# Altium footprint library Project_Oshinoko.PcbLib: 202 footprints (part 5 of 13)
Each footprint in its own frame and in the unit in brackets; x right, y up, seen from the top. Pads: shape width x height; smd on the part's side, far side on the other; paste and mask are expansions set on the pad; w line width, h text height; cw(c..) or ccw(c..) is an arc to the next point about the centre after c.
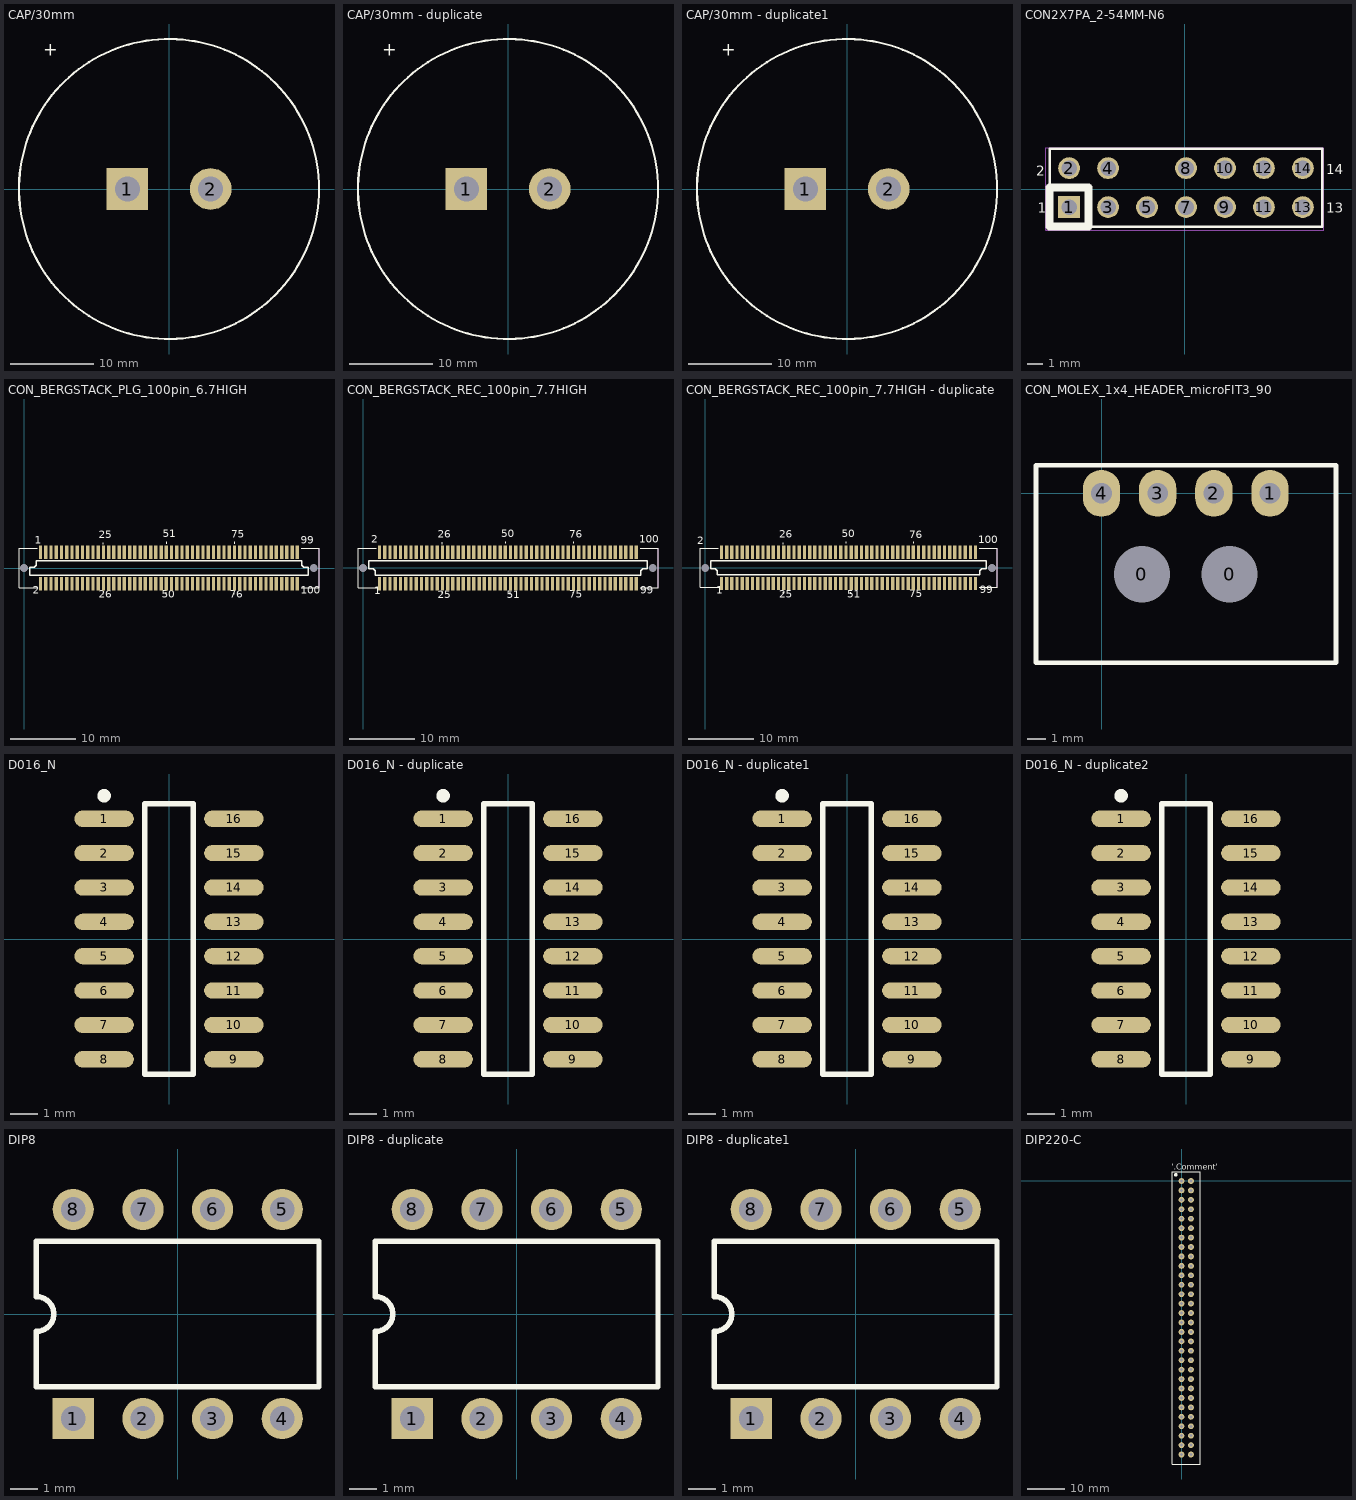
[diagram p4: the footprints below, top view; thin cyan lines are the x and y axes]

## CAP/30mm [mm]
pads (2):
  rect 5x5 hole 3: 1(-5,0)
  round 5 hole 3: 2(5,0)
Top Overlay:
  circle w0.254: c0,0 r18
  text "+" at -15.113,16.002 h1.52

## CAP/30mm - duplicate [mm]
pads (2):
  rect 5x5 hole 3: 1(-5,0)
  round 5 hole 3: 2(5,0)
Top Overlay:
  circle w0.254: c0,0 r18
  text "+" at -15.113,16.002 h1.52

## CAP/30mm - duplicate1 [mm]
pads (2):
  rect 5x5 hole 3: 1(-5,0)
  round 5 hole 3: 2(5,0)
Top Overlay:
  circle w0.254: c0,0 r18
  text "+" at -15.113,16.002 h1.52

## CON2X7PA_2-54MM-N6 [mil] "CON2X7PA_2-54MM-N6"
pads (13):
  rect 56x56 hole 40: 1(-296.5,-46.5)
  round 56 hole 40: 2(-296.5,53.5) 3(-196.5,-46.5) 4(-196.5,53.5) 5(-96.5,-46.5) 7(3.5,-46.5) 8(3.5,53.5) 9(103.5,-46.5) 10(103.5,53.5) 11(203.5,-46.5) 12(203.5,53.5) 13(303.5,-46.5) 14(303.5,53.5)
Top Overlay:
  lines w6: -346.5,-96.5 353.5,-96.5 353.5,103.5 -346.5,103.5 -346.5,-96.5
  lines w20: -346.5,-96.5 -246.5,-96.5 -246.5,3.5 -346.5,3.5 -346.5,-96.5
  text "14" at 363.5,38.5 h25
  text "13" at 363.5,-61.5 h25
  text "2" at -381.5,33.5 h25
  text "1" at -376.5,-61.5 h25
Mechanical 10:
  text "4" at -206.5,53.5 h25
  text "8" at -6.5,53.5 h25
  text "10" at 83.5,53.5 h25
  text "12" at 183.5,53.5 h25
  text "5" at -106.5,-46.5 h25
  text "13" at 283.5,-46.5 h25
  text "14" at 283.5,53.5 h25
  text "11" at 183.5,-46.5 h25
  text "9" at 93.5,-46.5 h25
  text "3" at -206.5,-46.5 h25
  text "7" at -6.5,-46.5 h25
  text "1" at -306.5,-46.5 h25
  text "2" at -306.5,53.5 h25
Mechanical 11:
  lines w1: -356.5,-106.5 356.5,-106.5 356.5,106.5 -356.5,106.5 -356.5,-106.5

## CON_BERGSTACK_PLG_100pin_6.7HIGH [mil]
pads (102):
  round 39.37 hole 47.99 unplated: 0(0,0) 0(1740,0)
  rect 20x80 smd: 1(98.35,94.49) 2(98.35,-94.49) 3(129.84,94.49) 4(129.84,-94.49) 5(161.34,94.49) 6(161.34,-94.49) 7(192.83,94.49) 8(192.83,-94.49) 9(224.33,94.49) 10(224.33,-94.49) 11(255.83,94.49) 12(255.83,-94.49) 13(287.32,94.49) 14(287.32,-94.49) 15(318.82,94.49) 16(318.82,-94.49) 17(350.31,94.49) 18(350.31,-94.49) 19(381.81,94.49) 20(381.81,-94.49) 21(413.31,94.49) 22(413.31,-94.49) 23(444.8,94.49) 24(444.8,-94.49) 25(476.3,94.49) 26(476.3,-94.49) 27(507.8,94.49) 28(507.8,-94.49) 29(539.29,94.49) 30(539.29,-94.49) 31(570.79,94.49) 32(570.79,-94.49) 33(602.28,94.49) 34(602.28,-94.49) 35(633.78,94.49) 36(633.78,-94.49) 37(665.28,94.49) 38(665.28,-94.49) 39(696.77,94.49) 40(696.77,-94.49) 41(728.27,94.49) 42(728.27,-94.49) 43(759.76,94.49) 44(759.76,-94.49) 45(791.26,94.49) 46(791.26,-94.49) 47(822.76,94.49) 48(822.76,-94.49) 49(854.25,94.49) 50(854.25,-94.49) 51(885.75,94.49) 52(885.75,-94.49) 53(917.24,94.49) 54(917.24,-94.49) 55(948.74,94.49) 56(948.74,-94.49) 57(980.24,94.49) 58(980.24,-94.49) 59(1011.73,94.49) 60(1011.73,-94.49) 61(1043.23,94.49) 62(1043.23,-94.49) 63(1074.72,94.49) 64(1074.72,-94.49) 65(1106.22,94.49) 66(1106.22,-94.49) 67(1137.72,94.49) 68(1137.72,-94.49) 69(1169.21,94.49) 70(1169.21,-94.49) 71(1200.71,94.49) 72(1200.71,-94.49) 73(1232.2,94.49) 74(1232.2,-94.49) 75(1263.7,94.49) 76(1263.7,-94.49) 77(1295.2,94.49) 78(1295.2,-94.49) 79(1326.69,94.49) 80(1326.69,-94.49) 81(1358.19,94.49) 82(1358.19,-94.49) 83(1389.69,94.49) 84(1389.68,-94.49) 85(1421.18,94.49) 86(1421.18,-94.49) 87(1452.68,94.49) 88(1452.68,-94.49) 89(1484.17,94.49) 90(1484.17,-94.49) 91(1515.67,94.49) 92(1515.67,-94.49) 93(1547.17,94.49) 94(1547.17,-94.49) 95(1578.66,94.49) 96(1578.66,-94.49) 97(1610.16,94.49) 98(1610.16,-94.49) 99(1641.65,94.49) 100(1641.65,-94.49)
Top Overlay:
  lines w6: 80,118.11 -31,118.11 -31,-118 81,-118 ; 475,-157.87 475,-147.87 ; 475,142.87 475,152.87 ; 852.95,-155.91 852.95,-145.91 ; 855.55,147.87 855.55,157.87 ; 1262.4,-157.87 1262.4,-147.87 ; 1265,147.87 1265,157.87 ; 1664,-118 1771.58,-118 1771.58,118.11 1665,118.11
  lines w7.87: 33.46,-44.29 1706.54,-44.29 1706.54,5.91 1679.96,5.91 1668.15,17.72 1668.15,43.31 71.85,43.31 71.85,17.72 60.04,5.91 33.46,5.91 33.46,-44.29
  text "100" at 1663.39,-172.24 h80
  text "99" at 1661.42,128.94 h80
  text "2" at 51.18,-172.24 h80
  text "1" at 62.99,128.94 h80
  text "25" at 448.82,161.42 h80
  text "26" at 448.82,-196.85 h80
  text "51" at 833.66,166.34 h80
  text "75" at 1244.09,164.37 h80
  text "76" at 1236.22,-196.85 h80
  text "50" at 827.76,-196.85 h80
Mechanical 13:
  lines w6: 1771.58,-118.11 1771.58,118.11
3D body "s61083-103x0xxx.stp": height 261.81, standoff -27.56, extent -31.5,-118.11 1771.65,118.11

## CON_BERGSTACK_REC_100pin_7.7HIGH [mil]
pads (102):
  round 39.37 hole 47.99 unplated: 0(0,0) 0(1740,0)
  rect 20x80 smd: 1(98.35,-94.49) 2(98.35,94.49) 3(129.84,-94.49) 4(129.84,94.49) 5(161.34,-94.49) 6(161.34,94.49) 7(192.83,-94.49) 8(192.83,94.49) 9(224.33,-94.49) 10(224.33,94.49) 11(255.83,-94.49) 12(255.83,94.49) 13(287.32,-94.49) 14(287.32,94.49) 15(318.82,-94.49) 16(318.82,94.49) 17(350.31,-94.49) 18(350.31,94.49) 19(381.81,-94.49) 20(381.81,94.49) 21(413.31,-94.49) 22(413.31,94.49) 23(444.8,-94.49) 24(444.8,94.49) 25(476.3,-94.49) 26(476.3,94.49) 27(507.8,-94.49) 28(507.8,94.49) 29(539.29,-94.49) 30(539.29,94.49) 31(570.79,-94.49) 32(570.79,94.49) 33(602.28,-94.49) 34(602.28,94.49) 35(633.78,-94.49) 36(633.78,94.49) 37(665.28,-94.49) 38(665.28,94.49) 39(696.77,-94.49) 40(696.77,94.49) 41(728.27,-94.49) 42(728.27,94.49) 43(759.76,-94.49) 44(759.76,94.49) 45(791.26,-94.49) 46(791.26,94.49) 47(822.76,-94.49) 48(822.76,94.49) 49(854.25,-94.49) 50(854.25,94.49) 51(885.75,-94.49) 52(885.75,94.49) 53(917.24,-94.49) 54(917.24,94.49) 55(948.74,-94.49) 56(948.74,94.49) 57(980.24,-94.49) 58(980.24,94.49) 59(1011.73,-94.49) 60(1011.73,94.49) 61(1043.23,-94.49) 62(1043.23,94.49) 63(1074.72,-94.49) 64(1074.72,94.49) 65(1106.22,-94.49) 66(1106.22,94.49) 67(1137.72,-94.49) 68(1137.72,94.49) 69(1169.21,-94.49) 70(1169.21,94.49) 71(1200.71,-94.49) 72(1200.71,94.49) 73(1232.2,-94.49) 74(1232.2,94.49) 75(1263.7,-94.49) 76(1263.7,94.49) 77(1295.2,-94.49) 78(1295.2,94.49) 79(1326.69,-94.49) 80(1326.69,94.49) 81(1358.19,-94.49) 82(1358.19,94.49) 83(1389.69,-94.49) 84(1389.68,94.49) 85(1421.18,-94.49) 86(1421.18,94.49) 87(1452.68,-94.49) 88(1452.68,94.49) 89(1484.17,-94.49) 90(1484.17,94.49) 91(1515.67,-94.49) 92(1515.67,94.49) 93(1547.17,-94.49) 94(1547.17,94.49) 95(1578.66,-94.49) 96(1578.66,94.49) 97(1610.16,-94.49) 98(1610.16,94.49) 99(1641.65,-94.49) 100(1641.65,94.49)
Top Overlay:
  lines w6: 80,118.11 -31,118.11 -31,-118 81,-118 ; 475,-157.87 475,-147.87 ; 475,142.87 475,152.87 ; 855.55,147.87 855.55,157.87 ; 884.45,-157.87 884.45,-147.87 ; 1262.4,-157.87 1262.4,-147.87 ; 1265,147.87 1265,157.87 ; 1664,-118 1771.58,-118 1771.58,118.11 1665,118.11
  lines w7.87: 33.46,-5.91 60.04,-5.91 71.85,-17.72 71.85,-43.31 1668.15,-43.31 1668.15,-17.72 1679.96,-5.91 1706.54,-5.91 1706.54,44.29 33.46,44.29 33.46,-5.91
  text "100" at 1657.48,131.89 h80
  text "99" at 1666.34,-173.23 h80
  text "2" at 49.21,132.87 h80
  text "1" at 67.91,-175.2 h80
  text "25" at 448.82,-199.8 h80
  text "26" at 448.82,164.37 h80
  text "51" at 863.19,-199.8 h80
  text "75" at 1238.19,-196.85 h80
  text "76" at 1238.19,162.4 h80
  text "50" at 828.74,166.34 h80
Mechanical 13:
  lines w6: 1771.58,-118.11 1771.58,118.11
3D body "s61082-102x0xxx.stp": height 303.15, standoff -25.59, extent -31.49,-133.86 1771.65,133.86

## CON_BERGSTACK_REC_100pin_7.7HIGH - duplicate [mil]
pads (102):
  round 39.37 hole 47.99 unplated: 0(0,0) 0(1740,0)
  rect 20x80 smd: 1(98.35,-94.49) 2(98.35,94.49) 3(129.84,-94.49) 4(129.84,94.49) 5(161.34,-94.49) 6(161.34,94.49) 7(192.83,-94.49) 8(192.83,94.49) 9(224.33,-94.49) 10(224.33,94.49) 11(255.83,-94.49) 12(255.83,94.49) 13(287.32,-94.49) 14(287.32,94.49) 15(318.82,-94.49) 16(318.82,94.49) 17(350.31,-94.49) 18(350.31,94.49) 19(381.81,-94.49) 20(381.81,94.49) 21(413.31,-94.49) 22(413.31,94.49) 23(444.8,-94.49) 24(444.8,94.49) 25(476.3,-94.49) 26(476.3,94.49) 27(507.8,-94.49) 28(507.8,94.49) 29(539.29,-94.49) 30(539.29,94.49) 31(570.79,-94.49) 32(570.79,94.49) 33(602.28,-94.49) 34(602.28,94.49) 35(633.78,-94.49) 36(633.78,94.49) 37(665.28,-94.49) 38(665.28,94.49) 39(696.77,-94.49) 40(696.77,94.49) 41(728.27,-94.49) 42(728.27,94.49) 43(759.76,-94.49) 44(759.76,94.49) 45(791.26,-94.49) 46(791.26,94.49) 47(822.76,-94.49) 48(822.76,94.49) 49(854.25,-94.49) 50(854.25,94.49) 51(885.75,-94.49) 52(885.75,94.49) 53(917.24,-94.49) 54(917.24,94.49) 55(948.74,-94.49) 56(948.74,94.49) 57(980.24,-94.49) 58(980.24,94.49) 59(1011.73,-94.49) 60(1011.73,94.49) 61(1043.23,-94.49) 62(1043.23,94.49) 63(1074.72,-94.49) 64(1074.72,94.49) 65(1106.22,-94.49) 66(1106.22,94.49) 67(1137.72,-94.49) 68(1137.72,94.49) 69(1169.21,-94.49) 70(1169.21,94.49) 71(1200.71,-94.49) 72(1200.71,94.49) 73(1232.2,-94.49) 74(1232.2,94.49) 75(1263.7,-94.49) 76(1263.7,94.49) 77(1295.2,-94.49) 78(1295.2,94.49) 79(1326.69,-94.49) 80(1326.69,94.49) 81(1358.19,-94.49) 82(1358.19,94.49) 83(1389.69,-94.49) 84(1389.68,94.49) 85(1421.18,-94.49) 86(1421.18,94.49) 87(1452.68,-94.49) 88(1452.68,94.49) 89(1484.17,-94.49) 90(1484.17,94.49) 91(1515.67,-94.49) 92(1515.67,94.49) 93(1547.17,-94.49) 94(1547.17,94.49) 95(1578.66,-94.49) 96(1578.66,94.49) 97(1610.16,-94.49) 98(1610.16,94.49) 99(1641.65,-94.49) 100(1641.65,94.49)
Top Overlay:
  lines w6: 80,118.11 -31,118.11 -31,-118 81,-118 ; 475,-157.87 475,-147.87 ; 475,142.87 475,152.87 ; 855.55,147.87 855.55,157.87 ; 884.45,-157.87 884.45,-147.87 ; 1262.4,-157.87 1262.4,-147.87 ; 1265,147.87 1265,157.87 ; 1664,-118 1771.58,-118 1771.58,118.11 1665,118.11
  lines w7.87: 33.46,-5.91 33.46,44.29 1706.54,44.29 1706.54,-5.91 1679.96,-5.91 1668.15,-17.72 1668.15,-43.31 71.85,-43.31 71.85,-17.72 60.04,-5.91 33.46,-5.91
  text "50" at 828.74,166.34 h80
  text "76" at 1238.19,162.4 h80
  text "75" at 1238.19,-196.85 h80
  text "51" at 863.19,-199.8 h80
  text "26" at 448.82,164.37 h80
  text "25" at 448.82,-199.8 h80
  text "1" at 67.91,-175.2 h80
  text "2" at -50,125 h80
  text "99" at 1666.34,-173.23 h80
  text "100" at 1657.48,131.89 h80
Mechanical 13:
  lines w6: 1771.58,-118.11 1771.58,118.11
3D body "s61082-102x0xxx.stp": height 303.15, standoff -25.59, extent -31.49,-133.86 1771.65,133.86

## CON_MOLEX_1x4_HEADER_microFIT3_90 [mm]
pads (6):
  oval 2x2.5 hole 3 unplated: 0(2.16,-4.32) 0(6.84,-4.32)
  oval 2x2.5 hole 1.1: 1(9,0) 2(6,0) 3(3,0) 4(0,0)
Top Overlay:
  lines w0.254: -3.5,-9.05 -3.5,1.5 12.525,1.5 12.525,-9.05 -3.5,-9.05
3D body "436500400.stp": height 5.64, standoff -3.27, extent -3.325,-8.875 12.325,1.025

## D016_N [mm]
pads (16):
  oval 2.2x0.6 smd: 1(-2.4,4.445) 2(-2.4,3.175) 3(-2.4,1.905) 4(-2.4,0.635) 5(-2.4,-0.635) 6(-2.4,-1.905) 7(-2.4,-3.175) 8(-2.4,-4.445) 9(2.4,-4.445) 10(2.4,-3.175) 11(2.4,-1.905) 12(2.4,-0.635) 13(2.4,0.635) 14(2.4,1.905) 15(2.4,3.175) 16(2.4,4.445)
Top Overlay:
  circle w0.25: c-2.4,5.295 r0.125
  lines w0.2: -0.9,-5 -0.9,5 0.9,5 0.9,-5 -0.9,-5

## D016_N - duplicate [mm]
pads (16):
  oval 2.2x0.6 smd: 1(-2.4,4.445) 2(-2.4,3.175) 3(-2.4,1.905) 4(-2.4,0.635) 5(-2.4,-0.635) 6(-2.4,-1.905) 7(-2.4,-3.175) 8(-2.4,-4.445) 9(2.4,-4.445) 10(2.4,-3.175) 11(2.4,-1.905) 12(2.4,-0.635) 13(2.4,0.635) 14(2.4,1.905) 15(2.4,3.175) 16(2.4,4.445)
Top Overlay:
  circle w0.25: c-2.4,5.295 r0.125
  lines w0.2: -0.9,-5 -0.9,5 0.9,5 0.9,-5 -0.9,-5

## D016_N - duplicate1 [mm]
pads (16):
  oval 2.2x0.6 smd: 1(-2.4,4.445) 2(-2.4,3.175) 3(-2.4,1.905) 4(-2.4,0.635) 5(-2.4,-0.635) 6(-2.4,-1.905) 7(-2.4,-3.175) 8(-2.4,-4.445) 9(2.4,-4.445) 10(2.4,-3.175) 11(2.4,-1.905) 12(2.4,-0.635) 13(2.4,0.635) 14(2.4,1.905) 15(2.4,3.175) 16(2.4,4.445)
Top Overlay:
  circle w0.25: c-2.4,5.295 r0.125
  lines w0.2: -0.9,-5 -0.9,5 0.9,5 0.9,-5 -0.9,-5

## D016_N - duplicate2 [mm]
pads (16):
  oval 2.2x0.6 smd: 1(-2.4,4.445) 2(-2.4,3.175) 3(-2.4,1.905) 4(-2.4,0.635) 5(-2.4,-0.635) 6(-2.4,-1.905) 7(-2.4,-3.175) 8(-2.4,-4.445) 9(2.4,-4.445) 10(2.4,-3.175) 11(2.4,-1.905) 12(2.4,-0.635) 13(2.4,0.635) 14(2.4,1.905) 15(2.4,3.175) 16(2.4,4.445)
Top Overlay:
  circle w0.25: c-2.4,5.295 r0.125
  lines w0.2: -0.9,-5 -0.9,5 0.9,5 0.9,-5 -0.9,-5

## DIP8 [mm]
pads (8):
  rect 1.5x1.5 hole 0.9: 1(-3.81,-3.81)
  round 1.5 hole 0.9: 2(-1.27,-3.81) 3(1.27,-3.81) 4(3.81,-3.81) 5(3.81,3.81) 6(1.27,3.81) 7(-1.27,3.81) 8(-3.81,3.81)
Top Overlay:
  lines w0.2: -5.15,-2.65 -5.15,-0.635 ccw(c-5.15,0) -5.15,0.635 -5.15,2.65 5.15,2.65 5.15,-2.65 -5.15,-2.65

## DIP8 - duplicate [mm]
pads (8):
  rect 1.5x1.5 hole 0.9: 1(-3.81,-3.81)
  round 1.5 hole 0.9: 2(-1.27,-3.81) 3(1.27,-3.81) 4(3.81,-3.81) 5(3.81,3.81) 6(1.27,3.81) 7(-1.27,3.81) 8(-3.81,3.81)
Top Overlay:
  lines w0.2: -5.15,-2.65 5.15,-2.65 5.15,2.65 -5.15,2.65 -5.15,0.635 cw(c-5.15,0) -5.15,-0.635 -5.15,-2.65

## DIP8 - duplicate1 [mm]
pads (8):
  rect 1.5x1.5 hole 0.9: 1(-3.81,-3.81)
  round 1.5 hole 0.9: 2(-1.27,-3.81) 3(1.27,-3.81) 4(3.81,-3.81) 5(3.81,3.81) 6(1.27,3.81) 7(-1.27,3.81) 8(-3.81,3.81)
Top Overlay:
  lines w0.2: -5.15,-2.65 5.15,-2.65 5.15,2.65 -5.15,2.65 -5.15,0.635 cw(c-5.15,0) -5.15,-0.635 -5.15,-2.65

## DIP220-C [mil]
pads (60):
  round 62 hole 32: 161(0,0) 162(100,0) 163(0,-100) 164(100,-100) 165(0,-200) 166(100,-200) 167(0,-300) 168(100,-300) 169(0,-400) 170(100,-400) 171(0,-500) 172(100,-500) 173(0,-600) 174(100,-600) 175(0,-700) 176(100,-700) 177(0,-800) 178(100,-800) 179(0,-900) 180(100,-900) 181(0,-1000) 182(100,-1000) 183(0,-1100) 184(100,-1100) 185(0,-1200) 186(100,-1200) 187(0,-1300) 188(100,-1300) 189(0,-1400) 190(100,-1400) 191(0,-1500) 192(100,-1500) 193(0,-1600) 194(100,-1600) 195(0,-1700) 196(100,-1700) 197(0,-1800) 198(100,-1800) 199(0,-1900) 200(100,-1900) 201(0,-2000) 202(100,-2000) 203(0,-2100) 204(100,-2100) 205(0,-2200) 206(100,-2200) 207(0,-2300) 208(100,-2300) 209(0,-2400) 210(100,-2400) 211(0,-2500) 212(100,-2500) 213(0,-2600) 214(100,-2600) 215(0,-2700) 216(100,-2700) 217(0,-2800) 218(100,-2800) 219(0,-2900) 220(100,-2900)
Top Overlay:
  circle w20: c-60,65 r10
  lines w10: -100,-3000 200,-3000 200,100 -100,100 -100,-3000
  text "'.Comment'" at -105,120 h60